# EAGLE library part MC14016BDG (library On Semiconductor)
Quad Analog Switch/Quad Multiplexer
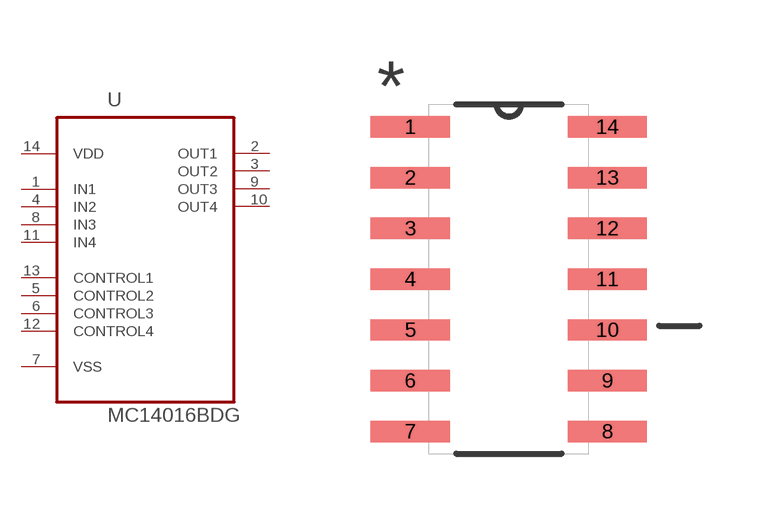
[diagram p207: symbol with the pads of SOIC127P600X175-14N; footprint SOIC127P600X175-14N]

Designator prefix U

## MC14016BDG (MPN: MC14016BDG; OC_FARNELL: 9666338; OC_NEWARK: 71J5456; PACKAGE: SOIC-14; SUPPLIER: ON SEMICONDUCTOR)  [SOIC127P600X175-14N]
1  IN1  in
2  OUT1  out
3  OUT2  out
4  IN2  in
5  CONTROL2  in
6  CONTROL3  in
7  VSS  pas
8  IN3  in
9  OUT3  out
10  OUT4  out
11  IN4  in
12  CONTROL4  in
13  CONTROL1  in
14  VDD  pwr

## Footprint SOIC127P600X175-14N (pad centres in mm)
smd 1.981 x 0.533: 1 -2.464,3.81; 2 -2.464,2.54; 3 -2.464,1.27; 4 -2.464,0; 5 -2.464,-1.27; 6 -2.464,-2.54; 7 -2.464,-3.81; 8 2.464,-3.81; 9 2.464,-2.54; 10 2.464,-1.27; 11 2.464,0; 12 2.464,1.27; 13 2.464,2.54; 14 2.464,3.81